# EAGLE library part NC7SZ157 (library KwanSystems)
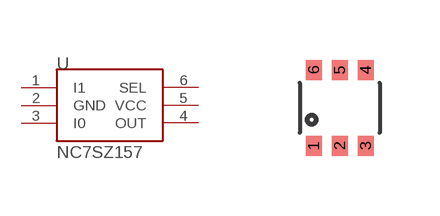
[diagram p12: symbol with the pads of SC-70-6; footprint SC-70-6]

Designator prefix -

## NC7SZ157  [SC-70-6]
1  I1
2  GND
3  I0
4  OUT
5  VCC
6  SEL

## Footprint SC-70-6 (pad centres in mm)
smd 0.4 x 0.5: 1 -0.65,-0.95; 2 0,-0.95; 3 0.65,-0.95; 4 0.65,0.95; 5 0,0.95; 6 -0.65,0.95